# EAGLE library part TCAN1051HGD (library 2024-02-16_18-01-42_Library)
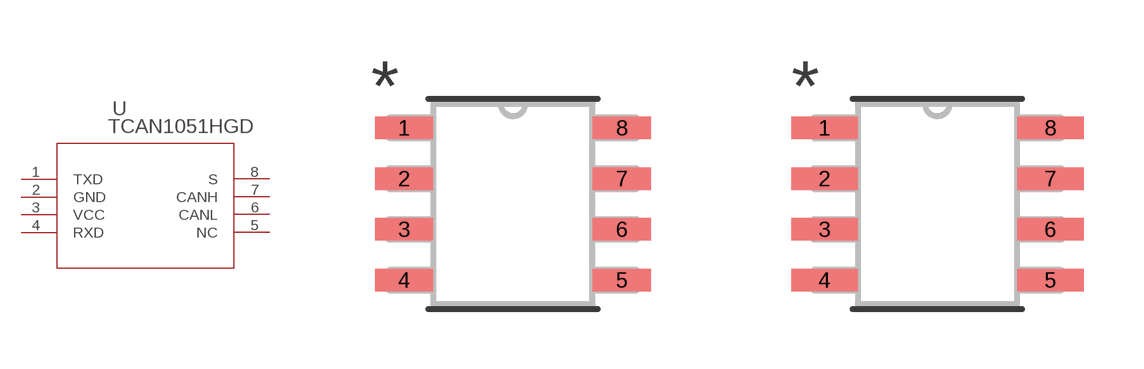
[diagram p0: symbol with the pads of D8_TEX; footprints D8_TEX, D8_TEX-M]

Designator prefix U

## TCAN1051HGDD8_TEX (Copyright: Copyright (C) 2024 Ultra Librarian. All rights reserved.; Manufacturer_Part_Number: TCAN1051HGD; Mfr_Name: Texas Instruments)  [D8_TEX]
1  TXD  pas
2  GND  pas
3  VCC  pwr
4  RXD  pas
5  NC  nc
6  CANL  pas
7  CANH  pas
8  S  pas

## TCAN1051HGDD8_TEX-M (Copyright: Copyright (C) 2024 Ultra Librarian. All rights reserved.; Manufacturer_Part_Number: TCAN1051HGD; Mfr_Name: Texas Instruments)  [D8_TEX-M]
Pads as for D8_TEX

## TCAN1051HGDD8_TEX-L (Copyright: Copyright (C) 2024 Ultra Librarian. All rights reserved.; Manufacturer_Part_Number: TCAN1051HGD; Mfr_Name: Texas Instruments)  [D8_TEX-L]
Pads as for D8_TEX

## Footprint D8_TEX (pad centres in mm)
smd 1.46 x 0.559: 1 -2.724,1.905; 2 -2.724,0.635; 3 -2.724,-0.635; 4 -2.724,-1.905; 5 2.724,-1.905; 6 2.724,-0.635; 7 2.724,0.635; 8 2.724,1.905

## Footprint D8_TEX-M (pad centres in mm)
smd 1.664 x 0.559: 1 -2.826,1.905; 2 -2.826,0.635; 3 -2.826,-0.635; 4 -2.826,-1.905; 5 2.826,-1.905; 6 2.826,-0.635; 7 2.826,0.635; 8 2.826,1.905

## Footprint D8_TEX-L (pad centres in mm)
smd 1.257 x 0.508: 1 -2.623,1.905; 2 -2.623,0.635; 3 -2.623,-0.635; 4 -2.623,-1.905; 5 2.623,-1.905; 6 2.623,-0.635; 7 2.623,0.635; 8 2.623,1.905